# EAGLE library part BLE112-A (library Bluetooth)
BlueGiga Bluetooth 4.0 module with integrated chip antenna and onboard 8051 processor and peripherals
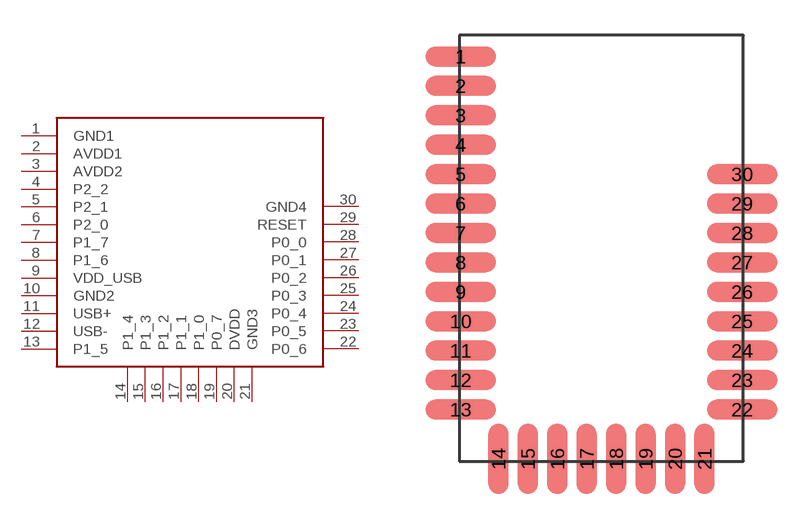
[diagram p1: symbol with the pads of BLE112-A; footprint BLE112-A]

Designator prefix U

## BLE112-A  [BLE112-A]
1  GND1
2  AVDD1
3  AVDD2
4  P2_2
5  P2_1
6  P2_0
7  P1_7
8  P1_6
9  VDD_USB
10  GND2
11  USB+
12  USB-
13  P1_5
14  P1_4
15  P1_3
16  P1_2
17  P1_1
18  P1_0
19  P0_7
20  DVDD
21  GND3
22  P0_6
23  P0_5
24  P0_4
25  P0_3
26  P0_2
27  P0_1
28  P0_0
29  RESET
30  GND4

## Footprint BLE112-A (pad centres in mm)
BLE112-A Bluetooth 4.0 module with built-in chip antenna.
smd 3 x 0.85: 1 0.05,17.2; 2 0.05,15.95; 3 0.05,14.7; 4 0.05,13.45; 5 0.05,12.2; 6 0.05,10.95; 7 0.05,9.7; 8 0.05,8.45; 9 0.05,7.2; 10 0.05,5.95; 11 0.05,4.7; 12 0.05,3.45; 13 0.05,2.2; 22 12,2.2; 23 12,3.45; 24 12,4.7; 25 12,5.95; 26 12,7.2; 27 12,8.45; 28 12,9.7; 29 12,10.95; 30 12,12.2
smd 0.85 x 3: 14 1.65,0.1; 15 2.9,0.1; 16 4.15,0.1; 17 5.4,0.1; 18 6.65,0.1; 19 7.9,0.1; 20 9.15,0.1; 21 10.4,0.1